# Altium schematic symbol library MMBD914LT3G.SchLib: 1 symbol
Pins are listed as number, name and electrical type; pins without a type are passive.

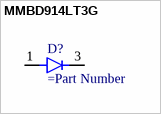
[diagram p0: symbol MMBD914LT3G]

## MMBD914LT3G
designator D?
=Description
pins: 1, 3